# EAGLE library part ESP32-S3-DEVKITC-1U-N8R8 (library ESP32-S3-DevKitC-1U-N8R8)
ESP32-S3-WROOM-1U-N8R8 ESP32-S Transceiver; 802.11 b/g/n (Wi-Fi, WiFi, WLAN), Bluetooth 5.x (BLE) 2.4GHz Evaluation Board Source: Datasheet <https://www.espressif.com/sites/default/files/documentation/esp32-s3-wroom-1_wroom-1u_datasheet_en.pdf>
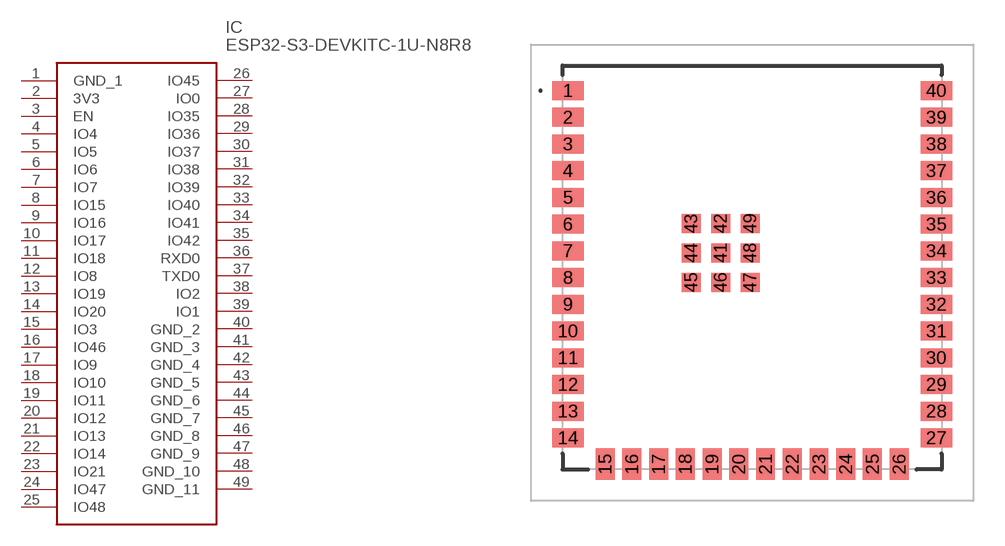
[diagram p0: symbol with the pads of ESP32S3DevKitC1UN8R8; footprint ESP32S3DevKitC1UN8R8]

Designator prefix IC

## ESP32-S3-DEVKITC-1U-N8R8 (Description: ESP32-S3-WROOM-1U-N8R8 ESP32-S Transceiver; 802.11 b/g/n (Wi-Fi, WiFi, WLAN), Bluetooth 5.x (BLE) 2.4GHz Evaluation Board; Height: 3.35mm; Manufacturer_Name: Espressif Systems; Manufacturer_Part_Number: ESP32-S3-DevKitC-1U-N8R8; Mouser_Part_Number: 356-32S3DEVKTC1UN8R8; Mouser_Price-Stock: https://www.mouser.co.uk/ProductDetail/Espressif-Systems/ESP32-S3-DevKitC-1U-N8R8?qs=Li%252BoUPsLEnv4qqHEsdK%252Bbw%3D%3D)  [ESP32S3DevKitC1UN8R8]
1  GND_1
2  3V3
3  EN
4  IO4
5  IO5
6  IO6
7  IO7
8  IO15
9  IO16
10  IO17
11  IO18
12  IO8
13  IO19
14  IO20
15  IO3
16  IO46
17  IO9
18  IO10
19  IO11
20  IO12
21  IO13
22  IO14
23  IO21
24  IO47
25  IO48
26  IO45
27  IO0
28  IO35
29  IO36
30  IO37
31  IO38
32  IO39
33  IO40
34  IO41
35  IO42
36  RXD0
37  TXD0
38  IO2
39  IO1
40  GND_2
41  GND_3
42  GND_4
43  GND_5
44  GND_6
45  GND_7
46  GND_8
47  GND_9
48  GND_10
49  GND_11

## Footprint ESP32S3DevKitC1UN8R8 (pad centres in mm)
19.2mm x 18mm x 3.2mm
smd 1.5 x 0.9: 1 -8.75,8.66; 2 -8.75,7.39; 3 -8.75,6.12; 4 -8.75,4.85; 5 -8.75,3.58; 6 -8.75,2.31; 7 -8.75,1.04; 8 -8.75,-0.23; 9 -8.75,-1.5; 10 -8.75,-2.77; 11 -8.75,-4.04; 12 -8.75,-5.31; 13 -8.75,-6.58; 14 -8.75,-7.85; 27 8.75,-7.85; 28 8.75,-6.58; 29 8.75,-5.31; 30 8.75,-4.04; 31 8.75,-2.77; 32 8.75,-1.5; 33 8.75,-0.23; 34 8.75,1.04; 35 8.75,2.31; 36 8.75,3.58; 37 8.75,4.85; 38 8.75,6.12; 39 8.75,7.39; 40 8.75,8.66
smd 0.9 x 1.5: 15 -6.985,-9.1; 16 -5.715,-9.1; 17 -4.445,-9.1; 18 -3.175,-9.1; 19 -1.905,-9.1; 20 -0.635,-9.1; 21 0.635,-9.1; 22 1.905,-9.1; 23 3.175,-9.1; 24 4.445,-9.1; 25 5.715,-9.1; 26 6.985,-9.1
smd 0.9 x 0.9: 41 -1.5,0.94; 42 -1.5,2.34; 43 -2.9,2.34; 44 -2.9,0.94; 45 -2.9,-0.46; 46 -1.5,-0.46; 47 -0.1,-0.46; 48 -0.1,0.94; 49 -0.1,2.34